# EAGLE library part OPENIMU (library 2020)
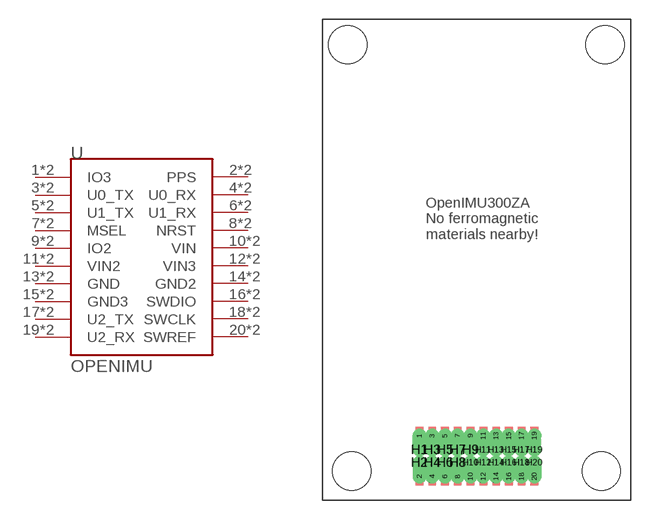
[diagram p0: symbol with the pads of OPENIMU300ZA; footprint OPENIMU300ZA]

Designator prefix -

## OPENIMU  [OPENIMU300ZA]
1  IO3
2  PPS
3  U0_TX
4  U0_RX
5  U1_TX
6  U1_RX
7  MSEL
8  NRST
9  IO2
10  VIN
11  VIN2
12  VIN3
13  GND
14  GND2
15  GND3
16  SWDIO
17  U2_TX
18  SWCLK
19  U2_RX
20  SWREF
H1  IO3
H2  PPS
H3  U0_TX
H4  U0_RX
H5  U1_TX
H6  U1_RX
H7  MSEL
H8  NRST
H9  IO2
H10  VIN
H11  VIN2
H12  VIN3
H13  GND
H14  GND2
H15  GND3
H16  SWDIO
H17  U2_TX
H18  SWCLK
H19  U2_RX
H20  SWREF

## Footprint OPENIMU300ZA (pad centres in mm)
LOW PROFILE 1MMX1MM DOUBLE ROW BODY. MANUFACTURER:SAMTEC.
smd 0.61 x 1.372: 1 -4.503,1.6; 2 -4.503,-1.6; 3 -3.503,1.6; 4 -3.503,-1.6; 5 -2.502,1.6; 6 -2.502,-1.6; 7 -1.501,1.6; 8 -1.501,-1.6; 9 -0.5,1.6; 10 -0.5,-1.6; 11 0.5,1.6; 12 0.5,-1.6; 13 1.501,1.6; 14 1.501,-1.6; 15 2.502,1.6; 16 2.502,-1.6; 17 3.503,1.6; 18 3.503,-1.6; 19 4.503,1.6; 20 4.503,-1.6
drill 0.6 pad 0.7 offset: H1 -4.5,0.5; H2 -4.5,-0.5; H3 -3.5,0.5; H4 -3.5,-0.5; H5 -2.5,0.5; H6 -2.5,-0.5; H7 -1.5,0.5; H8 -1.5,-0.5; H9 -0.5,0.5; H10 -0.5,-0.5; H11 0.5,0.5; H12 0.5,-0.5; H13 1.5,0.5; H14 1.5,-0.5; H15 2.5,0.5; H16 2.5,-0.5; H17 3.5,0.5; H18 3.5,-0.5; H19 4.5,0.5; H20 4.5,-0.5
hole 3 at 9.75,-1.16
hole 3 at -9.8,-1.16
hole 3 at -10.125,32.24
hole 3 at 10.025,32.24